# EAGLE library part ACS71X (library zz-upenn)
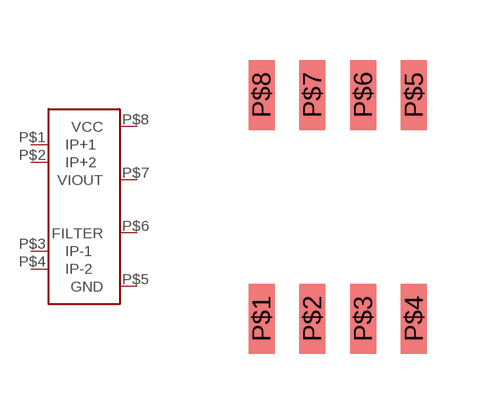
[diagram p30: symbol with the pads of SOIC-8; footprint SOIC-8]

Designator prefix -

## ACS71X  [SOIC-8]
P$1  IP+1
P$2  IP+2
P$3  IP-1
P$4  IP-2
P$5  GND
P$6  FILTER
P$7  VIOUT
P$8  VCC

## Footprint SOIC-8 (pad centres in mm)
smd 0.65 x 1.75: P$1 -1.905,-2.8; P$2 -0.635,-2.8; P$3 0.635,-2.8; P$4 1.905,-2.8; P$5 1.905,2.8; P$6 0.635,2.8; P$7 -0.635,2.8; P$8 -1.905,2.8